# Altium footprint library R1210(3225).PcbLib: 1 footprints
Each footprint in its own frame and in the unit in brackets; x right, y up, seen from the top. Pads: shape width x height; smd on the part's side, far side on the other; paste and mask are expansions set on the pad; w line width, h text height; cw(c..) or ccw(c..) is an arc to the next point about the centre after c.
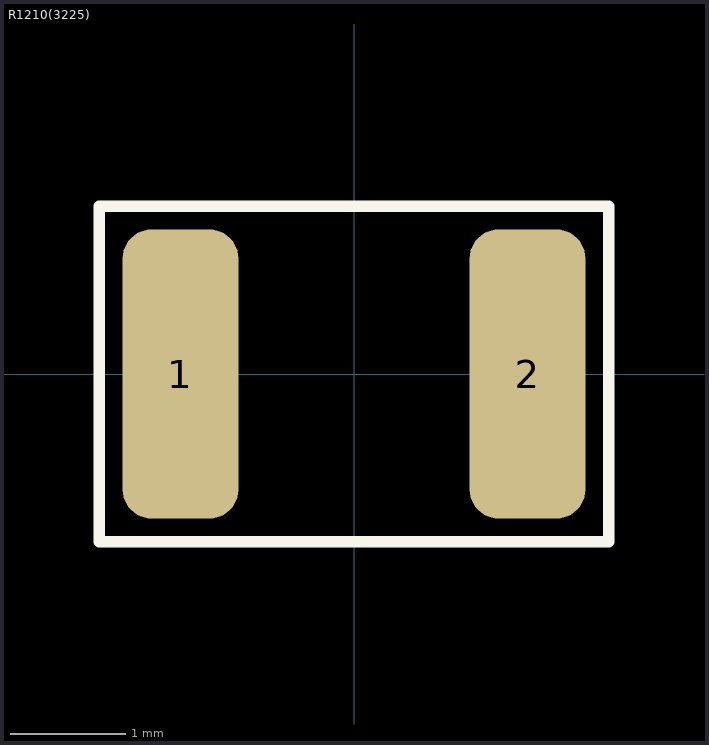
[diagram p0: the footprint, top view; thin cyan lines are the x and y axes]

## R1210(3225) [mm]
height 0.55
pads (2):
  rrect50% 1x2.5 smd: 1(-1.5,0) 2(1.5,0)
Top Overlay:
  lines w0.1: -2.2,-1.45 -2.2,1.45 2.2,1.45 2.2,-1.45 -2.2,-1.45
3D body "SMD R-1210.STEP": height 0.9, standoff 0.3, extent -1.6,-1.25 1.6,1.25